# EAGLE library part 653008117322 (library Wire-to-Board)
WR-WTB 1.25mm Male Horizontal Shrouded Header, 8 Pins=>Code : Con_WTB_1.25_PCB_THT_653008117322 <http://katalog.we-online.de/media/thumbs2/eican/thb_Con_WTB_1.25_PCB_THT_6530xx117322_pf2.jpg> Details see: http://katalog.we-online.de/en/em/653_0xx_117_322 Created 2014-06-06, Karrer Zheng 2014 (C) Würth Elektronik
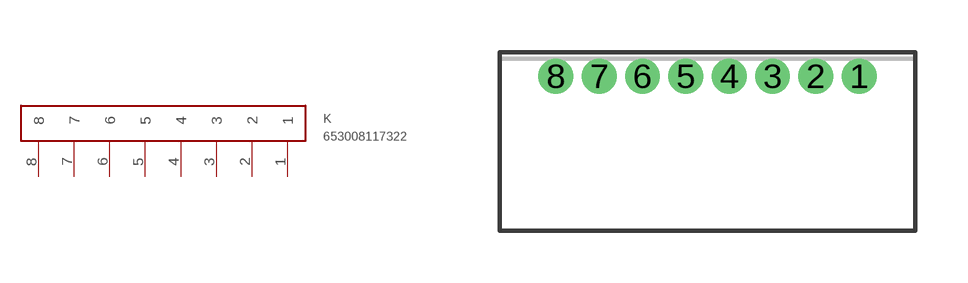
[diagram p88: symbol with the pads of 653008117322; footprint 653008117322]

Designator prefix K

## 653008117322  [653008117322]
1  1
2  2
3  3
4  4
5  5
6  6
7  7
8  8

## Footprint 653008117322 (pad centres in mm)
WR-WTB 1.25mm Male Horizontal Shrouded Header, 8 Pins
drill 0.5: 1 0.625,0; 2 -0.625,0; 3 -1.875,0; 4 -3.125,0; 5 -4.375,0; 6 -5.625,0; 7 -6.875,0; 8 -8.125,0